# Altium footprint library BEADC_0603_M1608.PcbLib: 1 footprints
Each footprint in its own frame and in the unit in brackets; x right, y up, seen from the top. Pads: shape width x height; smd on the part's side, far side on the other; paste and mask are expansions set on the pad; w line width, h text height; cw(c..) or ccw(c..) is an arc to the next point about the centre after c.
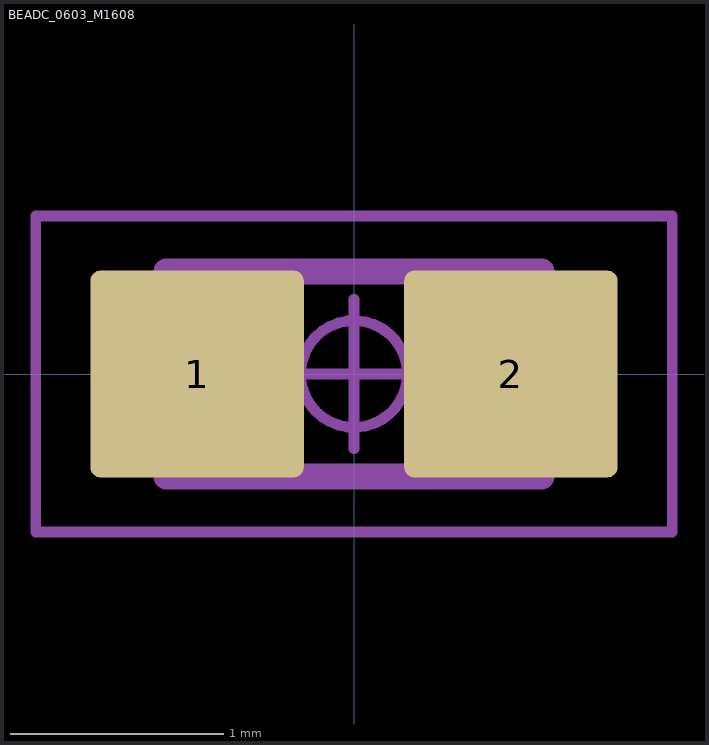
[diagram p0: the footprint, top view; thin cyan lines are the x and y axes]

## BEADC_0603_M1608 [mm] "Ferrite Bead, Chip; 1.60 mm L X 0.80 mm W X 0.95 mm H body"
pads (2):
  rrect10% 1x0.97 smd: 1(-0.735,0) 2(0.735,0)
Mechanical 11:
  lines w0.12: -0.88,-0.48 0.88,-0.48 0.88,0.48 -0.88,0.48 -0.88,-0.48
  text ".Designator" at -2.252,-0.226 h1
Mechanical 15:
  circle w0.05: c0,0 r0.25
  lines w0.05: -0.35,0 0.35,0 ; 0,-0.35 0,0.35 ; -1.49,-0.74 1.49,-0.74 1.49,0.74 -1.49,0.74 -1.49,-0.74
3D body "BEADC_0603_M1608.STEP": height 0.95, standoff 0, extent -0.875,-0.475 0.875,0.475